# Altium schematic symbol library N MOSFET.SchLib: 1 symbol
Pins are listed as number, name and electrical type; pins without a type are passive.

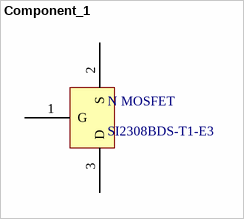
[diagram p0: symbol Component_1]

## Component_1
designator N MOSFET, comment SI2308BDS-T1-E3
MOSFET 60V 2.3A 1.66W 156mohm @ 10V
footprint PCBComponent_1
pins: 1 G, 2 S, 3 D